# EAGLE library part LPC2142 (library nxp-arm)
MICROCONTROLLER Single-chip 16-bit/32-bit microcontrollers; up to 512 kB flash with ISP/IAP, USB 2.0 full-speed device, 10-bit ADC and DAC
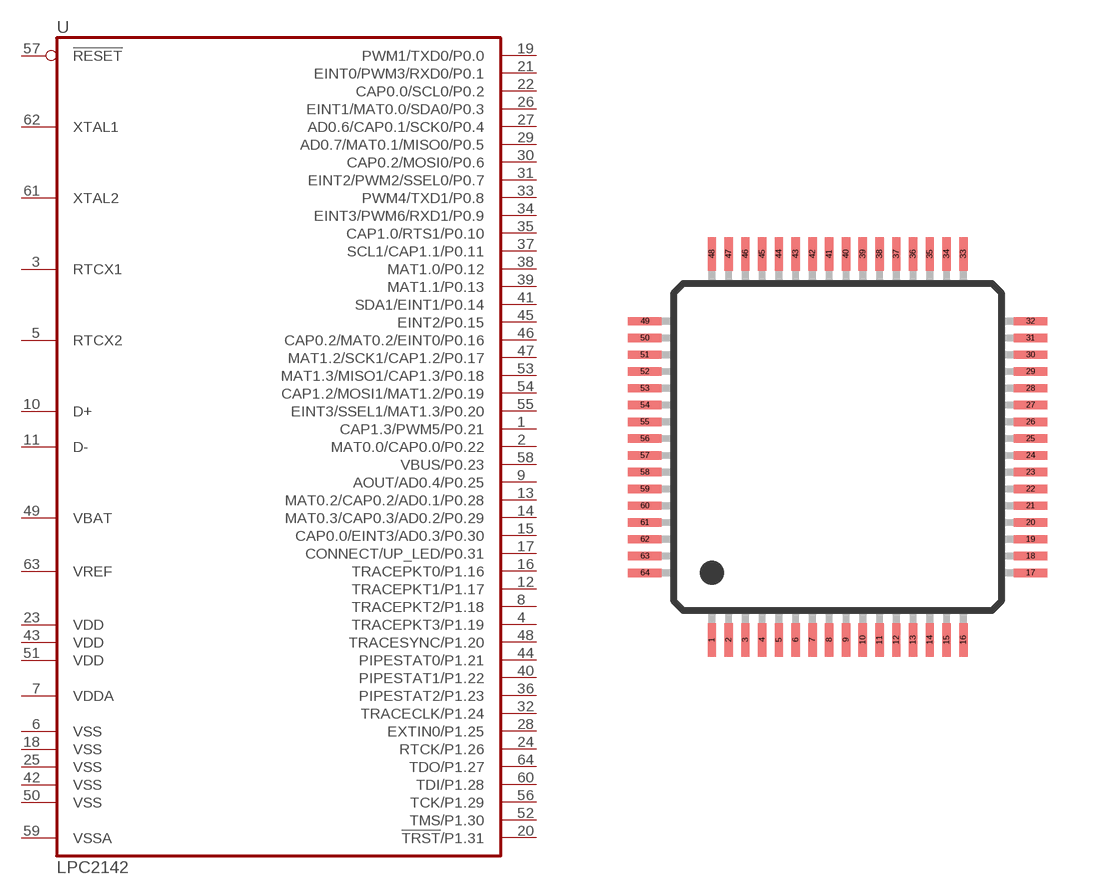
[diagram p11: symbol with the pads of LQFP64; footprint LQFP64]

Designator prefix U

## LPC2142  [LQFP64]
1  CAP1.3/PWM5/P0.21
2  MAT0.0/CAP0.0/P0.22
3  RTCX1  in
4  TRACEPKT3/P1.19
5  RTCX2
6  VSS  pwr
7  VDDA  pwr
8  TRACEPKT2/P1.18
9  AOUT/AD0.4/P0.25
10  D+
11  D-
12  TRACEPKT1/P1.17
13  MAT0.2/CAP0.2/AD0.1/P0.28
14  MAT0.3/CAP0.3/AD0.2/P0.29
15  CAP0.0/EINT3/AD0.3/P0.30
16  TRACEPKT0/P1.16
17  CONNECT/UP_LED/P0.31
18  VSS  pwr
19  PWM1/TXD0/P0.0
20  !TRST!/P1.31
21  EINT0/PWM3/RXD0/P0.1
22  CAP0.0/SCL0/P0.2
23  VDD  pwr
24  RTCK/P1.26
25  VSS  pwr
26  EINT1/MAT0.0/SDA0/P0.3
27  AD0.6/CAP0.1/SCK0/P0.4
28  EXTIN0/P1.25
29  AD0.7/MAT0.1/MISO0/P0.5
30  CAP0.2/MOSI0/P0.6
31  EINT2/PWM2/SSEL0/P0.7
32  TRACECLK/P1.24
33  PWM4/TXD1/P0.8
34  EINT3/PWM6/RXD1/P0.9
35  CAP1.0/RTS1/P0.10
36  PIPESTAT2/P1.23
37  SCL1/CAP1.1/P0.11
38  MAT1.0/P0.12
39  MAT1.1/P0.13
40  PIPESTAT1/P1.22
41  SDA1/EINT1/P0.14
42  VSS  pwr
43  VDD  pwr
44  PIPESTAT0/P1.21
45  EINT2/P0.15
46  CAP0.2/MAT0.2/EINT0/P0.16
47  MAT1.2/SCK1/CAP1.2/P0.17
48  TRACESYNC/P1.20
49  VBAT  pwr
50  VSS  pwr
51  VDD  pwr
52  TMS/P1.30
53  MAT1.3/MISO1/CAP1.3/P0.18
54  CAP1.2/MOSI1/MAT1.2/P0.19
55  EINT3/SSEL1/MAT1.3/P0.20
56  TCK/P1.29
57  !RESET!  in
58  VBUS/P0.23
59  VSSA  pwr
60  TDI/P1.28
61  XTAL2
62  XTAL1
63  VREF
64  TDO/P1.27

## Footprint LQFP64 (pad centres in mm)
LQFP64 pitch 0.5 mm, body 10 x 10 mm SOT314-2, JEDEC MS-026
smd 0.25 x 1: 1 -3.75,-5.75; 2 -3.25,-5.75; 3 -2.75,-5.75; 4 -2.25,-5.75; 5 -1.75,-5.75; 6 -1.25,-5.75; 7 -0.75,-5.75; 8 -0.25,-5.75; 9 0.25,-5.75; 10 0.75,-5.75; 11 1.25,-5.75; 12 1.75,-5.75; 13 2.25,-5.75; 14 2.75,-5.75; 15 3.25,-5.75; 16 3.75,-5.75; 33 3.75,5.75; 34 3.25,5.75; 35 2.75,5.75; 36 2.25,5.75; 37 1.75,5.75; 38 1.25,5.75; 39 0.75,5.75; 40 0.25,5.75; 41 -0.25,5.75; 42 -0.75,5.75; 43 -1.25,5.75; 44 -1.75,5.75; 45 -2.25,5.75; 46 -2.75,5.75; 47 -3.25,5.75; 48 -3.75,5.75
smd 1 x 0.25: 17 5.75,-3.75; 18 5.75,-3.25; 19 5.75,-2.75; 20 5.75,-2.25; 21 5.75,-1.75; 22 5.75,-1.25; 23 5.75,-0.75; 24 5.75,-0.25; 25 5.75,0.25; 26 5.75,0.75; 27 5.75,1.25; 28 5.75,1.75; 29 5.75,2.25; 30 5.75,2.75; 31 5.75,3.25; 32 5.75,3.75; 49 -5.75,3.75; 50 -5.75,3.25; 51 -5.75,2.75; 52 -5.75,2.25; 53 -5.75,1.75; 54 -5.75,1.25; 55 -5.75,0.75; 56 -5.75,0.25; 57 -5.75,-0.25; 58 -5.75,-0.75; 59 -5.75,-1.25; 60 -5.75,-1.75; 61 -5.75,-2.25; 62 -5.75,-2.75; 63 -5.75,-3.25; 64 -5.75,-3.75